# Altium schematic symbol library MOSFET-N-CH-1G2S3D.SchLib: 1 symbol
Pins are listed as number, name and electrical type; pins without a type are passive.

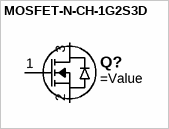
[diagram p0: symbol MOSFET-N-CH-1G2S3D]

## MOSFET-N-CH-1G2S3D
designator Q?
pins: 1 G, 2 S, 3 D